# Altium schematic symbol library En.SCHLIB: 144 symbols (part 2 of 2)
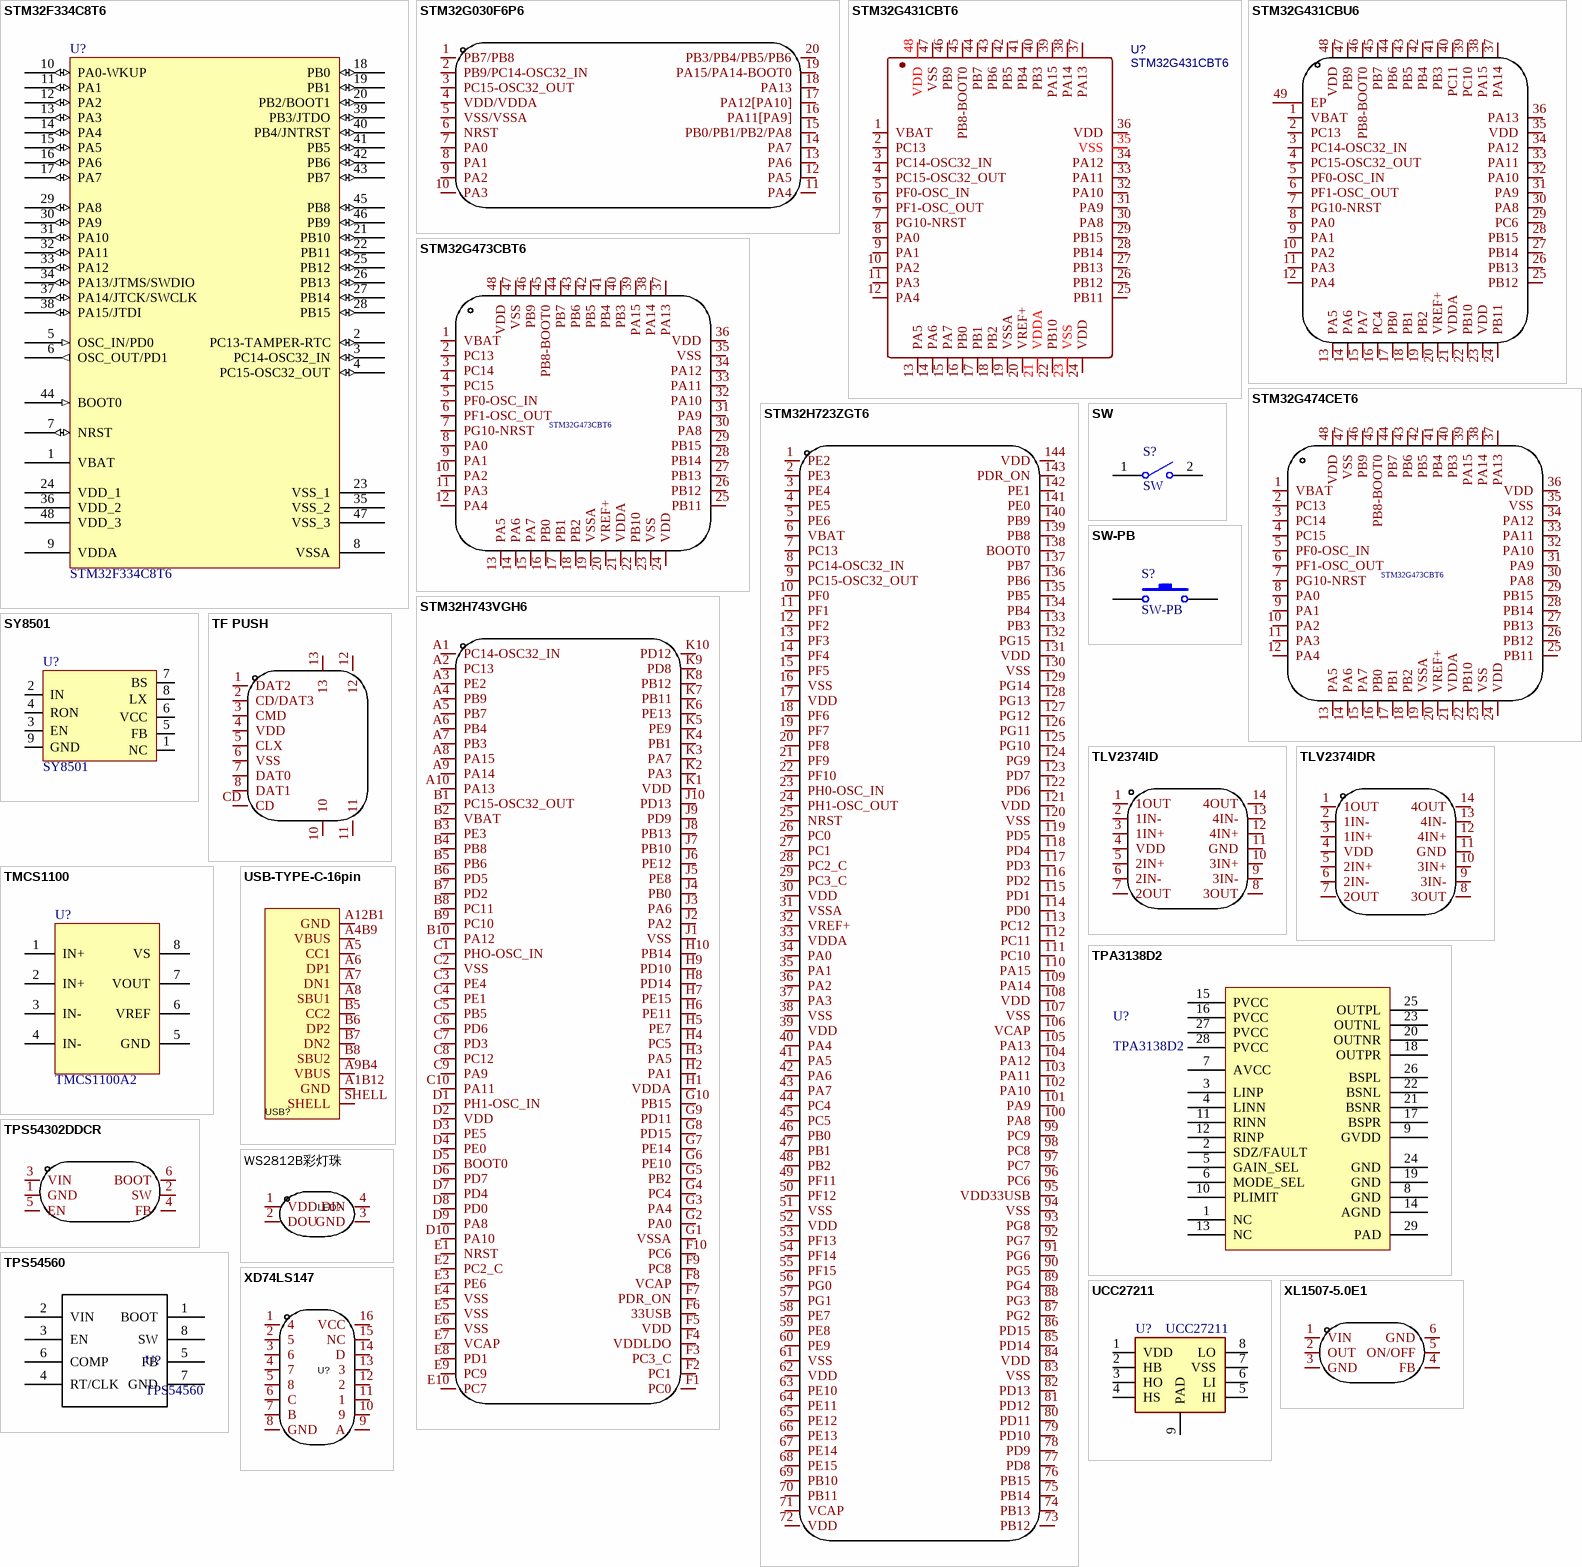
[diagram p5: symbols STM32F334C8T6 to XL1507-5.0E1]

## STM32H743VGH6
designator U?  (value not drawn)
Manufacturer: ST(意法半导体); Add into BOM: yes; CPU Core: ARM-M系列; Program Storage Size: 1MB; GPIO Ports Number: 82; Operating Voltage Range: 1.71V~3.6V; CPU Maximum Speed: 480MHz; ADC (Bit): 16bit; DAC (Bit): 12bit; Universal Serial Bus: 有; Name: STM32H743VGH6; Symbol: STM32H743VGH6; Device: STM32H743VGH6; LCSC Part Name: STM32H743VGH6; Supplier Part: C3210600; Manufacturer Part: STM32H743VGH6; Supplier Footprint: TFBGA-100; JLCPCB Part Class: Extended Part; Datasheet: https://atta.szlcsc.com/upload/public/pdf/source/20220307/46489B78091107FB73FE6602EFA9948C.pdf; Supplier: LCSC; Convert to PCB: yes; Operating Temperature Range: -40℃~+85℃; Watchdog: 有; Infrared Data Association: 有; Low-Voltage Detect: 有; LCD Module: 有; Secure Digital Input and Output: 有; Direct Memory Access: 有; Internal Oscillator: 有
footprint TFBGA-100_L8.0-W8.0-P0.80-R10-C10-TL
pins: A1 PC14-OSC32_IN, A2 PC13, A3 PE2, A4 PB9, A5 PB7, A6 PB4, A7 PB3, A8 PA15, A9 PA14, A10 PA13, B1 PC15-OSC32_OUT, B2 VBAT, B3 PE3, B4 PB8, B5 PB6, B6 PD5, B7 PD2, B8 PC11, B9 PC10, B10 PA12, C1 PHO-OSC_IN, C2 VSS, C3 PE4, C4 PE1, C5 PB5, C6 PD6, C7 PD3, C8 PC12, C9 PA9, C10 PA11, D1 PH1-OSC_IN, D2 VDD, D3 PE5, D4 PE0, D5 BOOT0, D6 PD7, D7 PD4, D8 PD0, D9 PA8, D10 PA10, E1 NRST, E2 PC2_C, E3 PE6, E4 VSS, E5 VSS, E6 VSS, E7 VCAP, E8 PD1, E9 PC9, E10 PC7, F1 PC0, F2 PC1, F3 PC3_C, F4 VDDLDO, F5 VDD, F6 33USB, F7 PDR_ON, F8 VCAP, F9 PC8, F10 PC6, G1 VSSA, G2 PA0, G3 PA4, G4 PC4, G5 PB2, G6 PE10, G7 PE14, G8 PD15, G9 PD11, G10 PB15, H1 VDDA, H2 PA1, H3 PA5, H4 PC5, H5 PE7, H6 PE11, H7 PE15, H8 PD14, H9 PD10, H10 PB14, J1 VSS, J2 PA2, J3 PA6, J4 PB0, J5 PE8, J6 PE12, J7 PB10, J8 PB13, J9 PD9, J10 PD13, K1 VDD, K2 PA3, K3 PA7, K4 PB1, K5 PE9, K6 PE13, K7 PB11, K8 PB12, K9 PD8, K10 PD12

## SW
designator S?
开关
footprint KEY_SMD
pins: 1 COMMON, 2 NO

## SW-PB
designator S?
开关; Published: 24-Mar-1999; LatestRevisionDate: 17-Jul-2002; LatestRevisionNote: Re-released for DXP Platform.; PackageReference: SPST-2; Publisher: Altium Limited; PackageDescription: Switch; 2 Leads
footprint TS-1101
pins: 1, 2

## SY8501
designator U?
电源管理芯片
footprint SO8E
pins: 1 NC, 2 IN, 3 EN, 4 RON, 5 FB, 6 VCC, 7 BS, 8 LX, 9 GND

## TF PUSH
designator CARD?  (value not drawn)
SD卡槽; Manufacturer: SHOU HAN(首韩); Add into BOM: yes; Card Connection Mode: 自弹式; Card Type: MicroSD卡(TF卡); Connector Type: 卡座; Maximum Body Height: 2mm; Additional Card Detection Pins: 无; Symbol: TF PUSH; Device: TF PUSH; LCSC Part Name: 自弹式 MicroSD卡(TF卡) 卡座; Supplier Part: C393941; Manufacturer Part: TF PUSH; Supplier Footprint: SMD; JLCPCB Part Class: Extended Part; Datasheet: https://atta.szlcsc.com/upload/public/pdf/source/20191011/C393941_0DDD896EE907FEB750D8B7B8982E2A67.pdf; Supplier: LCSC; Convert to PCB: yes; Contact Material: -; Contact Plating: -; Operating Temperature Range: -20℃~+90℃; Soldering Temperature(Max): -; Supplementary Features: -
footprint TF-SMD_TF-PUSH
pins: 1 DAT2, 2 CD/DAT3, 3 CMD, 4 VDD, 5 CLX, 6 VSS, 7 DAT0, 8 DAT1, 10, 11, 12, 13, CD

## TLV2374ID
designator U?  (value not drawn)
四通道运放; Manufacturer: TI(德州仪器); Add into BOM: yes; Number of Circuits: 四路; Gain Bandwidth Product(GBP): 3MHz; Slew Rate(SR): 2.1V/us; Symbol: TLV2374ID; Device: TLV2374ID; Supplier: LCSC; Supplier Part: C353017; Manufacturer Part: TLV2374ID; JLCPCB Part Class: Extended Part; LCSC Part Name: TLV2374ID; Supplier Footprint: SOIC-14-300mil; Datasheet: https://www.ti.com/cn/lit/gpn/tlv2374; Convert to PCB: yes
footprint SOIC-14_L8.7-W3.9-P1.27-LS6.0-BL
pins: 1 1OUT, 2 1IN-, 3 1IN+, 4 VDD, 5 2IN+, 6 2IN-, 7 2OUT, 8 3OUT, 9 3IN-, 10 3IN+, 11 GND, 12 4IN+, 13 4IN-, 14 4OUT

## TLV2374IDR
designator U?  (value not drawn)
四通道运算放大器; Manufacturer: TI(德州仪器); Add into BOM: yes; Number of Circuits: 四路; Gain Bandwidth Product(GBP): 3MHz; Current - Input Bias(Ib): 1pA; Slew Rate(SR): 2.1V/us; Output Current: 16mA; Supply Current: 750uA; Symbol: TLV2374IDR; Device: TLV2374IDR; LCSC Part Name: TLV2374IDR; Supplier Part: C29793; Manufacturer Part: TLV2374IDR; Supplier Footprint: SOIC-14-150mil; JLCPCB Part Class: Extended Part; Datasheet: https://www.ti.com/cn/lit/gpn/tlv2374; Supplier: LCSC; Convert to PCB: yes; Output Type: -; Rail to Rail: -; Operating Temperature: -40℃~+125℃
footprint SOIC-14_L8.7-W3.9-P1.27-LS6.0-BL
pins: 1 1OUT, 2 1IN-, 3 1IN+, 4 VDD, 5 2IN+, 6 2IN-, 7 2OUT, 8 3OUT, 9 3IN-, 10 3IN+, 11 GND, 12 4IN+, 13 4IN-, 14 4OUT

## TMCS1100
designator U?, comment TMCS1100A2
霍尔电流传感器
footprint SOIC8_N (8-Pin Small Outline Integrated Circuit Package (SOIC8), IPC Medium Density)
pins: 1 IN+, 2 IN+, 3 IN-, 4 IN-, 5 GND, 6 VREF, 7 VOUT, 8 VS

## TPA3138D2
designator U?
音频放大器
footprint TSSOP-28_L9.7-W4.4-P0.65-LS6.4-BL-EP
pins: 1 NC, 2 SDZ/FAULT, 3 LINP, 4 LINN, 5 GAIN_SEL, 6 MODE_SEL, 7 AVCC, 8 GND, 9 GVDD, 10 PLIMIT, 11 RINN, 12 RINP, 13 NC, 14 AGND, 15 PVCC, 16 PVCC, 17 BSPR, 18 OUTPR, 19 GND, 20 OUTNR, 21 BSNR, 22 BSNL, 23 OUTNL, 24 GND, 25 OUTPL, 26 BSPL, 27 PVCC, 28 PVCC, 29 PAD

## TPS54302DDCR
designator U?  (value not drawn)
DC-DC 同步整流BUCK芯片; Manufacturer: TI(德州仪器); Symbol: TPS54302DDCR_C311983; Add into BOM: yes; Function: 降压型; Output Type: 可调; Input Voltage: 4.5V~28V; Output Voltage: 596mV~28V; Output Current (Max): 3A; Switching Frequency: 400kHz; Synchronous Rectification: 是; Number of Outputs: 1; Topology: 降压式; Switch tube (built-in/external): 内置; Device: TPS54302DDCR; LCSC Part Name: TPS54302DDCR; Supplier Part: C311983; Manufacturer Part: TPS54302DDCR; Supplier Footprint: TSOT-23-6; JLCPCB Part Class: Extended Part; Datasheet: https://www.ti.com/cn/lit/gpn/tps54302; Supplier: LCSC; Convert to PCB: yes; Operating Temperature: -40℃~+125℃@(TJ)
footprint SOT-23-6_L2.9-W1.6-P0.95-LS2.8-BL
pins: 1 GND, 2 SW, 3 VIN, 4 FB, 5 EN, 6 BOOT

## TPS54560
designator U?
DC-DC 非同步整流降压芯片
footprint SOIC-8_L5.0-W4.0-P1.27-LS6.0-BL-EP2.0
pins: 1 BOOT, 2 VIN, 3 EN, 4 RT/CLK, 5 FB, 6 COMP, 7 GND, 8 SW

## UCC27211
designator U?
栅极驱动器
footprint SOIC-8-EP
pins: 1 VDD, 2 HB, 3 HO, 4 HS, 5 HI, 6 LI, 7 VSS, 8 LO, 9 PAD

## USB-TYPE-C-16pin
designator USB?  (value not drawn)
Manufacturer: DEALON(德艺隆); Symbol: usb-type-c-018; Add into BOM: yes; Connector Type: Type-C; Gender: 母; Number of Contacts: 16P; Number of Ports: 1; Current Rating - Power (Max): 3A; Device: USB-TYPE-C-018; LCSC Part Name: Type-C 母 卧贴; Supplier Part: C2927038; Manufacturer Part: USB-TYPE-C-018; Supplier Footprint: SMD; JLCPCB Part Class: Extended Part; Datasheet: https://atta.szlcsc.com/upload/public/pdf/source/20211217/CCD3D517E355E8E0CC52ABD8D5784AD8.pdf; Supplier: LCSC; Convert to PCB: yes; Standard: -; Mounting Style: 卧贴; Operating Temperature Range: -25℃~+85℃
footprint usb-c_smd-type-c-31-m-12
pins: A1B12 GND, A4B9 VBUS, A5 CC1, A6 DP1, A7 DN1, A8 SBU1, A9B4 VBUS, A12B1 GND, B5 CC2, B6 DP2, B7 DN2, B8 SBU2, SHELL

## WS2812B彩灯珠
designator LED?, comment XL-5050RGBC-WS2812B  (value not drawn)
WS2812B彩灯珠; Manufacturer: XINGLIGHT(成兴光); Add into BOM: yes; Emitted Color: RGB三色; Peak Wavelength: 625nm；470nm；530nm; Lens Color: 无色透明透镜; Viewing Angle: 120°; Mounting Sytle: 正贴; Symbol: XL-5050RGBC-WS2812B; Device: XL-5050RGBC-WS2812B; LCSC Part Name: XL-5050RGBC-WS2812B; Supplier Part: C2843785; Manufacturer Part: XL-5050RGBC-WS2812B; Supplier Footprint: SMD5050; JLCPCB Part Class: Extended Part; Datasheet: https://atta.szlcsc.com/upload/public/pdf/source/20230111/86AAD2096485A2E5BCAB883FF8CBE6FD.pdf; Supplier: LCSC; Convert to PCB: yes; Power Dissipation: -; Forward Current: -; Dominant Wavelength: -; Diode Configuration: -; Color Temperature: -; Operating Temperature: -20℃~+85℃
footprint LED-SMD_4P-L5.0-W5.0-BL_XL-5050RGBC
pins: 1 VDD, 2 DOU, 3 GND, 4 DIN

## XD74LS147
designator U?  (value not drawn)
10~4路优先级编码器; Manufacturer: XINLUDA(信路达); Add into BOM: yes; Name: XD74LS147; Symbol: XD74LS147; Device: XD74LS147; LCSC Part Name: XD74LS147; Supplier Part: C521198; Manufacturer Part: XD74LS147; Supplier Footprint: DIP-16; JLCPCB Part Class: Extended Part; Datasheet: https://atta.szlcsc.com/upload/public/pdf/source/20200424/C521197_44E3118D18892D99555CDE5C346394E2.pdf; Supplier: LCSC; Convert to PCB: yes
footprint DIP-16_L19.2-W6.6-P2.54-LS7.6-BL
3D model DIP-16_L19.2-W6.6-H3.3-LS7.62-P2.54
pins: 1 4, 2 5, 3 6, 4 7, 5 8, 6 C, 7 B, 8 GND, 9 A, 10 9, 11 1, 12 2, 13 3, 14 D, 15 NC, 16 VCC

## XL1507-5.0E1
designator U?  (value not drawn)
DC-DC BUCK芯片; Manufacturer: XLSEMI(芯龙); Add into BOM: yes; Symbol: XL1507-5.0E1; Device: XL1507-5.0E1; LCSC Part Name: XL1507-5.0E1; Supplier Part: C74195; Manufacturer Part: XL1507-5.0E1; Supplier Footprint: TO-252-5; JLCPCB Part Class: Extended Part; Datasheet: https://atta.szlcsc.com/upload/public/pdf/source/20160525/1464169836651.pdf; Supplier: LCSC; Convert to PCB: yes
footprint TO-252-5_L6.5-W5.6-P1.27-LS9.5-TL
pins: 1 VIN, 2 OUT, 3 GND, 4 FB, 5 ON/OFF, 6 GND

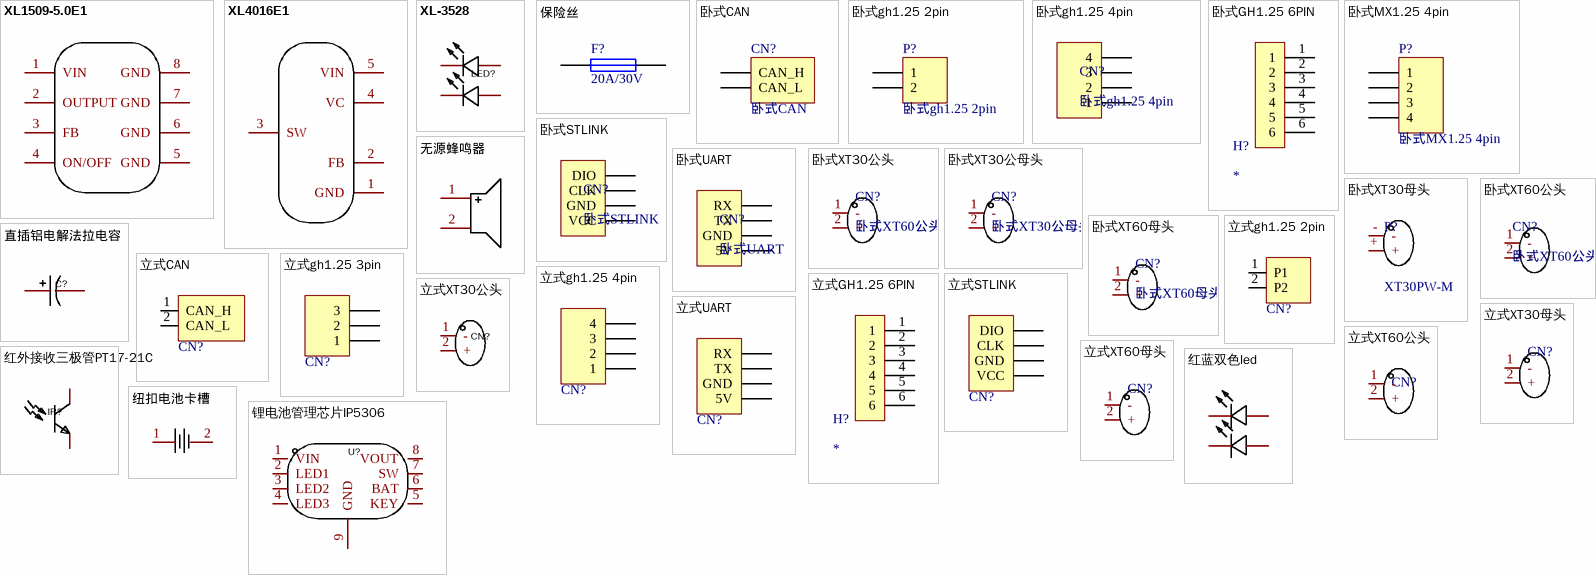
[diagram p4: symbols XL1509-5.0E1 to 锂电池管理芯片IP5306]

## XL1509-5.0E1
designator U?  (value not drawn)
DC-DC BUCK芯片; Manufacturer: XLSEMI(芯龙); Add into BOM: yes; Function: 降压型; Switch tube (built-in/external): 内置; Symbol: XL1509-5.0E1; Device: XL1509-5.0E1; Supplier: LCSC; Manufacturer Part: XL1509-5.0E1; Supplier Part: C61063; JLCPCB Part Class: Basic Part; LCSC Part Name: XL1509-5.0E1; Supplier Footprint: SOIC-8; Datasheet: https://atta.szlcsc.com/upload/public/pdf/source/20151126/1457707596805.pdf; Convert to PCB: yes; Input Voltage: -; Output Current (Max): -; Switching Frequency: -; Synchronous Rectification: -; Number of Outputs: -; Topology: -
footprint SOIC-8_L5.0-W4.0-P1.27-LS6.0-BL
pins: 1 VIN, 2 OUTPUT, 3 FB, 4 ON/OFF, 5 GND, 6 GND, 7 GND, 8 GND

## XL4016E1
designator U?  (value not drawn)
DC-DC BUCK芯片; Manufacturer: XLSEMI(芯龙); Add into BOM: yes; Function: 降压型; Input Voltage: 8V~40V; Output Voltage: 1.25V~36V; Output Current (Max): 8A; Switching Frequency: 180kHz; Synchronous Rectification: 否; Number of Outputs: 1; Topology: 降压式; Switch tube (built-in/external): 内置; Symbol: XL4016E1; Device: XL4016E1; Supplier: LCSC; Manufacturer Part: XL4016E1; Supplier Part: C55881; JLCPCB Part Class: Extended Part; LCSC Part Name: XL4016E1; Supplier Footprint: TO-220-5; Datasheet: https://atta.szlcsc.com/upload/public/pdf/source/20221017/BA256A5392B705775B4C335FAFB3EDCF.pdf; Convert to PCB: yes
footprint TO-220-5L_L10.2-W4.5-P1.71-L
pins: 1 GND, 2 FB, 3 SW, 4 VC, 5 VIN

## XL-3528
designator LED?, comment XL-3528SURUGC  (value not drawn)
双色灯珠; Manufacturer: XINGLIGHT(成兴光); Add into BOM: yes; Emitted Color: 红色,翠绿色; Power Dissipation: 90mW；90mW; Forward Current: 30mA; Dominant Wavelength: 520nm~522.5nm；620nm~625nm; Peak Wavelength: 522.5nm；625nm; Lens Color: 无色透明透镜; Viewing Angle: 120°; Mounting Sytle: 正贴; Symbol: XL-3528SURUGC; Device: XL-3528SURUGC; LCSC Part Name: XL-3528SURUGC; Supplier Part: C2843810; Manufacturer Part: XL-3528SURUGC; Supplier Footprint: SMD3528; JLCPCB Part Class: Extended Part; Datasheet: https://atta.szlcsc.com/upload/public/pdf/source/20221102/F90D461D3395F167E4A274E460079459.pdf; Supplier: LCSC; Convert to PCB: yes; Diode Configuration: -; Operating Temperature: -30℃~+85℃
footprint LED-SMD_4P-L3.2-W2.8-LS3.5-TL
pins: 1, 2, 3, 4

## 保险丝
designator F?, comment 20A/30V
保险丝; Published: 8-Jun-2000; LatestRevisionDate: 17-Jul-2002; LatestRevisionNote: Re-released for DXP Platform.; PackageReference: PIN-W2/E2.8; Publisher: Altium Limited; PackageDescription: Thru-Hole; 2 Leads
footprint FU 1206 (贴片保险丝)
pins: 1, 2

## 卧式CAN
designator CN?
LatestRevisionDate: 17-Jul-2002; LatestRevisionNote: Re-released for DXP Platform.; Publisher: Altium Limited
signal-integrity model Connector
footprint A1257WR-S-2P
pins: 1 CAN_H, 2 CAN_L

## 卧式gh1.25 2pin
designator P?
LatestRevisionDate: 17-Jul-2002; LatestRevisionNote: Re-released for DXP Platform.; Publisher: Altium Limited
signal-integrity model Connector
footprint A1257WR-S-2P
pins: 1, 2

## 卧式gh1.25 4pin
designator CN?
footprint CONN-SMD_4P-P1.25_GH1.25-4P
pins: 1, 2, 3, 4

## 卧式GH1.25 6PIN
designator H?
footprint CONN-SMD_6P-P1.25_XYECONN_XY-GH1.25-6A61
pins: 1, 2, 3, 4, 5, 6

## 卧式MX1.25 4pin
designator P?
LatestRevisionDate: 17-Jul-2002; LatestRevisionNote: Re-released for DXP Platform.; Publisher: Altium Limited
signal-integrity model Connector
footprint MX 1.25-WS-4P (长：10.15mm，宽：4.2mm，高：3.4mm)
pins: 1, 2, 3, 4

## 卧式STLINK
designator CN?
footprint CONN-SMD_4P-P1.25_GH1.25-4P
pins: 1 VCC, 2 GND, 3 CLK, 4 DIO

## 卧式UART
designator CN?
footprint CONN-SMD_4P-P1.25_GH1.25-4P
pins: 1 5V, 2 GND, 3 TX, 4 RX

## 卧式XT30公头
designator CN?, comment 卧式XT60公头
footprint CONN-TH_XT30PW-F
pins: 1 -, 2 +

## 卧式XT30公母头
designator CN?
footprint CONN-TH_XT30PW-M
pins: 1 -, 2 +

## 卧式XT30母头
designator P?, comment XT30PW-M
卧式XT30母头; LatestRevisionDate: 17-Jul-2002; LatestRevisionNote: Re-released for DXP Platform.; Publisher: Altium Limited
footprint XT30PW-M
pins: +, -

## 卧式XT60公头
designator CN?
footprint CONN-TH_XT60PW-F
pins: 1 -, 2 +

## 卧式XT60母头
designator CN?
footprint CONN-TH_XT60PW-M
pins: 1 -, 2 +

## 无源蜂鸣器
designator BUZZER?, comment QMB-09B-03  (value not drawn)
Manufacturer: 华能; Value: 2.7kHz; Add into BOM: yes; Oscillator Circuit: 无源(外部驱动); Technology Type: 电磁式; Operating Voltage: 2V~5V; Sound Pressure Level (SPL): 85dB@3V,10cm; Symbol: QMB-09B-03; Device: QMB-09B-03; Supplier: LCSC; Manufacturer Part: QMB-09B-03; Supplier Part: C96256; JLCPCB Part Class: Extended Part; LCSC Part Name: 无源蜂鸣器QMB-09B-03; Supplier Footprint: 插件,D=9mm; Datasheet: https://atta.szlcsc.com/upload/public/pdf/source/20210401/C96256_958B17753B5AD7CBFBCFFC7C095B4484.pdf; Convert to PCB: yes; Diameter (φD): 9mm; Height: 5.7mm
footprint BUZ-TH_BD9.0-P4.00-D0.6-FD
pins: 1, 2

## 直插铝电解法拉电容
designator C?, comment 40F  (value not drawn)
直插铝电解法拉电容; Manufacturer: rubycon(红宝石); Name: 100uF; Symbol: 100YXJ100M10X20; Add into BOM: yes; Value: 100uF; Tolerance: ±20%; Rated Voltage: 100V; Ripple Current: 1.04A@100kHz; Equivalent Series Resistance(ESR): 120mΩ@100kHz; φD: 10mm; L: 20mm; Lifetime @ Temp: 10000hrs@105℃; Device: 100YXJ100M10X20; LCSC Part Name: 100uF ±20% 100V; Supplier Part: C440827; Manufacturer Part: 100YXJ100M10X20; Supplier Footprint: 插件,D10xL20mm; JLCPCB Part Class: Extended Part; Datasheet: https://atta.szlcsc.com/upload/public/pdf/source/20230810/A68D5411C6D60D4A104C9B6E8FF59617.pdf; Supplier: LCSC; Convert to PCB: yes; Lead Spacing: 5mm
footprint CAP-TH_BD10.0-P5.00-D1.0-FD
3D model CAP-TH_D10.0-H16.0-P5.00
pins: 1, 2

## 立式CAN
designator CN?, comment 立式gh1.25 2pin  (value not drawn)
footprint CONN-SMD_GH1.25-2PWBPZ
pins: 1 CAN_H, 2 CAN_L

## 立式gh1.25 2pin
designator CN?  (value not drawn)
footprint CONN-SMD_GH1.25-2PWBPZ
pins: 1 P1, 2 P2

## 立式gh1.25 3pin
designator CN?  (value not drawn)
LatestRevisionDate: 17-Jul-2002; LatestRevisionNote: Re-released for DXP Platform.; Publisher: Altium Limited
footprint CONN-SMD_3P-P1.25_XUNPU_WAFER-GH1.25-3PLB
pins: 1, 2, 3

## 立式gh1.25 4pin
designator CN?  (value not drawn)
LatestRevisionDate: 17-Jul-2002; LatestRevisionNote: Re-released for DXP Platform.; Publisher: Altium Limited
footprint GH1.25 4P 立贴
pins: 1, 2, 3, 4

## 立式GH1.25 6PIN
designator H?
立式GH1.25 6PIN
footprint CONN-SMD_6P-P1.25_XUNPU_WAFER-GH1.25-6PLB
pins: 1, 2, 3, 4, 5, 6

## 立式STLINK
designator CN?  (value not drawn)
LatestRevisionDate: 17-Jul-2002; LatestRevisionNote: Re-released for DXP Platform.; Publisher: Altium Limited
footprint GH1.25 4P 立贴
pins: 1 VCC, 2 GND, 3 CLK, 4 DIO

## 立式UART
designator CN?  (value not drawn)
LatestRevisionDate: 17-Jul-2002; LatestRevisionNote: Re-released for DXP Platform.; Publisher: Altium Limited
footprint GH1.25 4P 立贴
pins: 1 5V, 2 GND, 3 TX, 4 RX

## 立式XT30公头
designator CN?, comment XT30立式  (value not drawn)
立式XT30公头; Manufacturer: AMASS(艾迈斯); Symbol: XT60; Add into BOM: yes; Brand: 艾迈斯; InterfaceType: 公头; specifications: 3.5mm; Device: XT60; LCSC Part Name: AMASS(艾迈斯) XT60模型插头 3.5mm镀金香蕉头公头（电调端）XT60-M; Supplier Part: C98733; Manufacturer Part: XT60; Supplier Footprint: -; JLCPCB Part Class: Extended Part; Datasheet: https://atta.szlcsc.com/upload/public/pdf/source/20170606/1496716524919.pdf; Supplier: LCSC; Convert to PCB: yes; Model: XT60; Power: -; Output: -; Input: -; Size: -; Interface: -; Type: 香蕉头; Colour: 黄色; MaximumCurrent: -; RatedVoltage: -; Type1: -; NumberOfUSBHoles: -; MetalMaterial: -; InsulationMaterial: -; RatedCurrent: -; RecommendedWireGauge: -; FlameRetardantGrade: -; contact resistance: -; Belt length: -
footprint CONN-TH_XT30U-F
pins: 1 -, 2 +

## 立式XT30母头
designator CN?  (value not drawn)
footprint CONN-TH_XT30U-M
pins: 1 -, 2 +

## 立式XT60公头
designator CN?, comment XT60 立式  (value not drawn)
立式XT60公头
footprint CONN-TH_XT60U-F
pins: 1 -, 2 +

## 立式XT60母头
designator CN?  (value not drawn)
footprint CONN-TH_XT60U-M
pins: 1 -, 2 +

## 红外接收三极管PT17-21C
designator IR?, comment PT17-21C/L41/TR8  (value not drawn)
Manufacturer: EVERLIGHT(亿光); Add into BOM: yes; Transistor Type: NPN; Collector Emitter Voltage: 30V; Collector Current (Ic): 20mA; Dissipation Power(Max): 75mW; Collector Dark Current: 100nA; Peak Wavelength: 940nm; Name: PT17-21C/L41/TR8; Symbol: PT17-21C/L41/TR8; Device: PT17-21C/L41/TR8; LCSC Part Name: 940nm的NPN光电三极管; Supplier Part: C100090; Manufacturer Part: PT17-21C/L41/TR8; Supplier Footprint: 0805; JLCPCB Part Class: Extended Part; Datasheet: https://atta.szlcsc.com/upload/public/pdf/source/20170412/1491985218480.pdf; Supplier: LCSC; Convert to PCB: yes; Viewing Angle: -; Operating Temperature: -25℃~+85℃
footprint OPTO-SMD_L2.0-W1.3-R-FD
3D model OPTO-SMD_L2.0-W1.3-R-FD
pins: 1 E, 2 C

## 红蓝双色led
designator U?  (value not drawn)
Manufacturer: MEIHUA(美华); Symbol: MHT150RBCT; Add into BOM: yes; Emitted Color: 红色,蓝色; Forward Voltage (VF): 2.7V~3.4V；1.8V~2.5V; Forward Current: 20mA; Dominant Wavelength: 460nm~475nm；621nm; Peak Wavelength: 632nm；462nm; Luminous Intensity: 90mcd~360mcd; Viewing Angle: 130°; Device: MHT150RBCT; LCSC Part Name: 1206正贴红蓝双色; Supplier Part: C3028841; Manufacturer Part: MHT150RBCT; Supplier Footprint: 1206; JLCPCB Part Class: Extended Part; Datasheet: https://atta.szlcsc.com/upload/public/pdf/source/20220606/9803CFB43244D163E45154DFF344EA48.pdf; Supplier: LCSC; Convert to PCB: yes; Lens Color: -; Operating Temperature: -40℃~+85℃
footprint LED-SMD_4P-L3.2-W1.6-RD_MHT150RBCT
pins: 1 -, 2 -, 3 +, 4 +

## 纽扣电池卡槽
designator B?, comment CR1220-2  (value not drawn)
Manufacturer: Q&J; Add into BOM: yes; Connector Type: 电池底座; Battery Type: CR1220; Name: CR1220-2; Symbol: CR1220-2; Device: CR1220-2; LCSC Part Name: 电池底座 适用电池:CR1220; Supplier Part: C70381; Manufacturer Part: CR1220-2; Supplier Footprint: SMD; JLCPCB Part Class: Extended Part; Datasheet: https://atta.szlcsc.com/upload/public/pdf/source/20160427/1461725216696.pdf; Supplier: LCSC; Convert to PCB: yes; Operating Temperature Range: -
footprint BAT-SMD_CR1220-2
3D model BAT-SMD_CR1220-2
pins: 1, 2

## 锂电池管理芯片IP5306
designator U?, comment IP5306  (value not drawn)
Manufacturer: INJOINIC(英集芯); Add into BOM: yes; Symbol: IP5306; Device: IP5306; LCSC Part Name: IP5306; Supplier Part: C181692; Manufacturer Part: IP5306; Supplier Footprint: ESOP-8; JLCPCB Part Class: Extended Part; Datasheet: https://atta.szlcsc.com/upload/public/pdf/source/20190627/C384572_9925B3DDC4041BC6108E5AB46A2A0AB1.pdf; Supplier: LCSC; Convert to PCB: yes
footprint ESOP-8_L4.9-W3.9-P1.27-LS6.0-BL-EP
pins: 1 VIN, 2 LED1, 3 LED2, 4 LED3, 5 KEY, 6 BAT, 7 SW, 8 VOUT, 9 GND